# Altium schematic symbol library CoinCellHolder.SchLib: 1 symbol
Pins are listed as number, name and electrical type; pins without a type are passive.

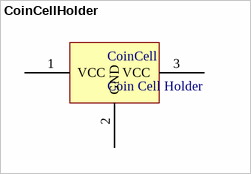
[diagram p0: symbol CoinCellHolder]

## CoinCellHolder
designator CoinCell, comment Coin Cell Holder
footprint CoinCell (coin cell holder)
pins: 1 VCC, 2 GND, 3 VCC